# EAGLE library part LTC4125 (library foe-scale)
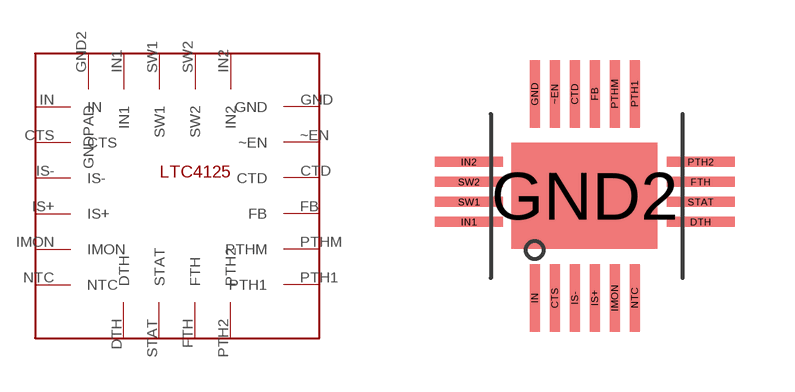
[diagram p20: symbol with the pads of LTC1945-QFN; footprint LTC1945-QFN]

Designator prefix -

## LTC4125  [LTC1945-QFN]
CTD  CTD
CTS  CTS
DTH  DTH
FB  FB
FTH  FTH
GND  GND
GND2  GNDPAD
IMON  IMON
IN  IN
IN1  IN1
IN2  IN2
IS+  IS+
IS-  IS-
NTC  NTC
PTH1  PTH1
PTH2  PTH2
PTHM  PTHM
STAT  STAT
SW1  SW1
SW2  SW2
~EN  ~EN

## Footprint LTC1945-QFN (pad centres in mm)
smd 0.25 x 1.7: CTD 1,4.6; CTS 0.5,-0.5; FB 1.5,4.6; GND 0,4.6; IMON 2,-0.5; IN 0,-0.5; IS+ 1.5,-0.5; IS- 1,-0.5; NTC 2.5,-0.5; PTH1 2.5,4.6; PTHM 2,4.6; ~EN 0.5,4.6
smd 1.7 x 0.25: DTH 4.15,1.4; FTH 4.15,2.4; IN1 -1.65,1.4; IN2 -1.65,2.9; PTH2 4.15,2.9; STAT 4.15,1.9; SW1 -1.65,1.9; SW2 -1.65,2.4
smd 3.65 x 2.65: GND2 1.249,2.059